# EAGLE library part T__DARLINGTON_ARRAY (library ..SMD)
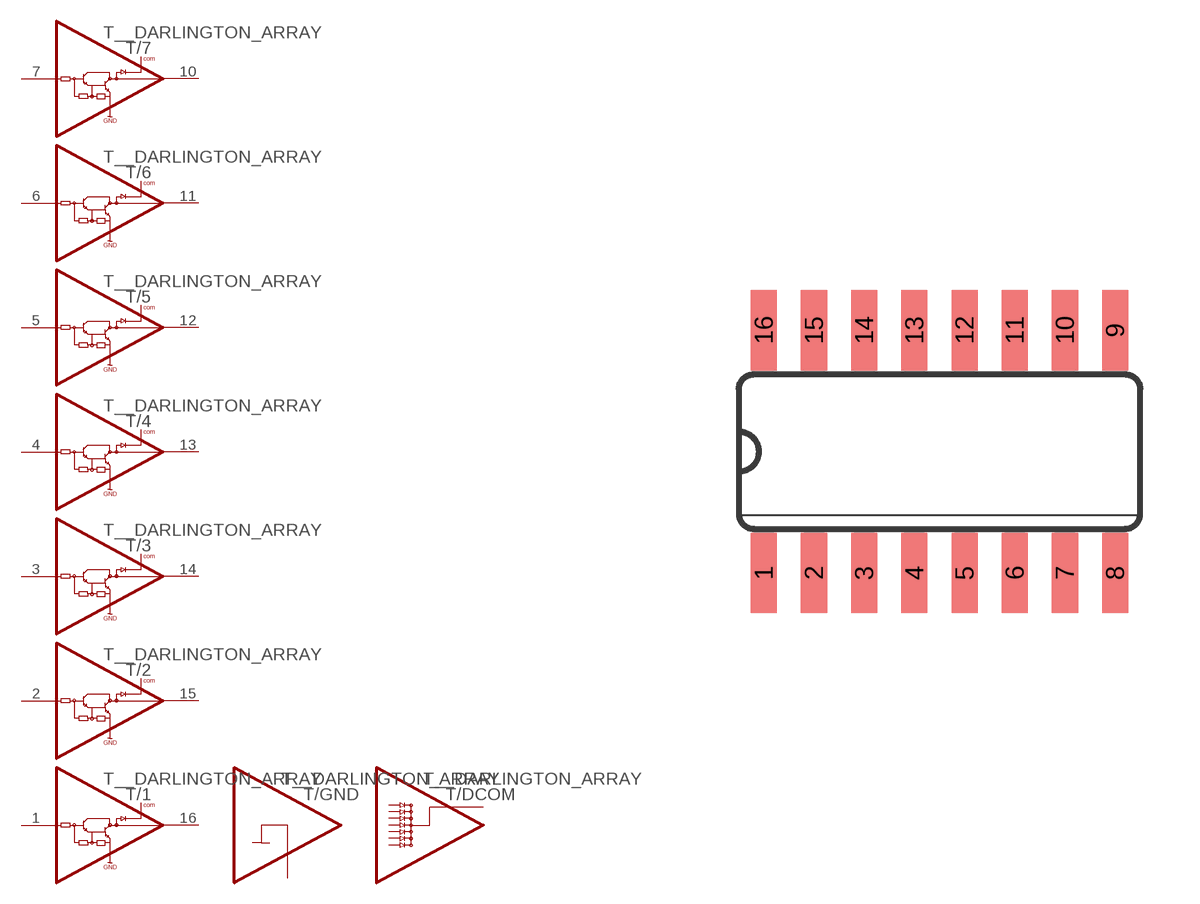
[diagram p4: symbol with the pads of SO16; footprint SO16]

Designator prefix T; gates /DCOM=DARLINGTONINVERTER_DCOM /1=DARLINGTONINVERTER /2=DARLINGTONINVERTER /3=DARLINGTONINVERTER /4=DARLINGTONINVERTER /5=DARLINGTONINVERTER /6=DARLINGTONINVERTER /7=DARLINGTONINVERTER /GND=DARLINGTONINVERTER_GND

## T__DARLINGTON_ARRAYSO16  [SO16]
1  /1:I  in
2  /2:I  in
3  /3:I  in
4  /4:I  in
5  /5:I  in
6  /6:I  in
7  /7:I  in
8  /GND:GND  pwr
9  /DCOM:DCOM  pwr
10  /7:O  oc
11  /6:O  oc
12  /5:O  oc
13  /4:O  oc
14  /3:O  oc
15  /2:O  oc
16  /1:O  oc

## Footprint SO16 (pad centres in mm)
Small Outline Package 16
smd 0.66 x 2.032: 1 -4.445,-3.073; 2 -3.175,-3.073; 3 -1.905,-3.073; 4 -0.635,-3.073; 5 0.635,-3.073; 6 1.905,-3.073; 7 3.175,-3.073; 8 4.445,-3.073; 9 4.445,3.073; 10 3.175,3.073; 11 1.905,3.073; 12 0.635,3.073; 13 -0.635,3.073; 14 -1.905,3.073; 15 -3.175,3.073; 16 -4.445,3.073